# Altium footprint library gateway2.PcbLib: 12 footprints
Each footprint in its own frame and in the unit in brackets; x right, y up, seen from the top. Pads: shape width x height; smd on the part's side, far side on the other; paste and mask are expansions set on the pad; w line width, h text height; cw(c..) or ccw(c..) is an arc to the next point about the centre after c.
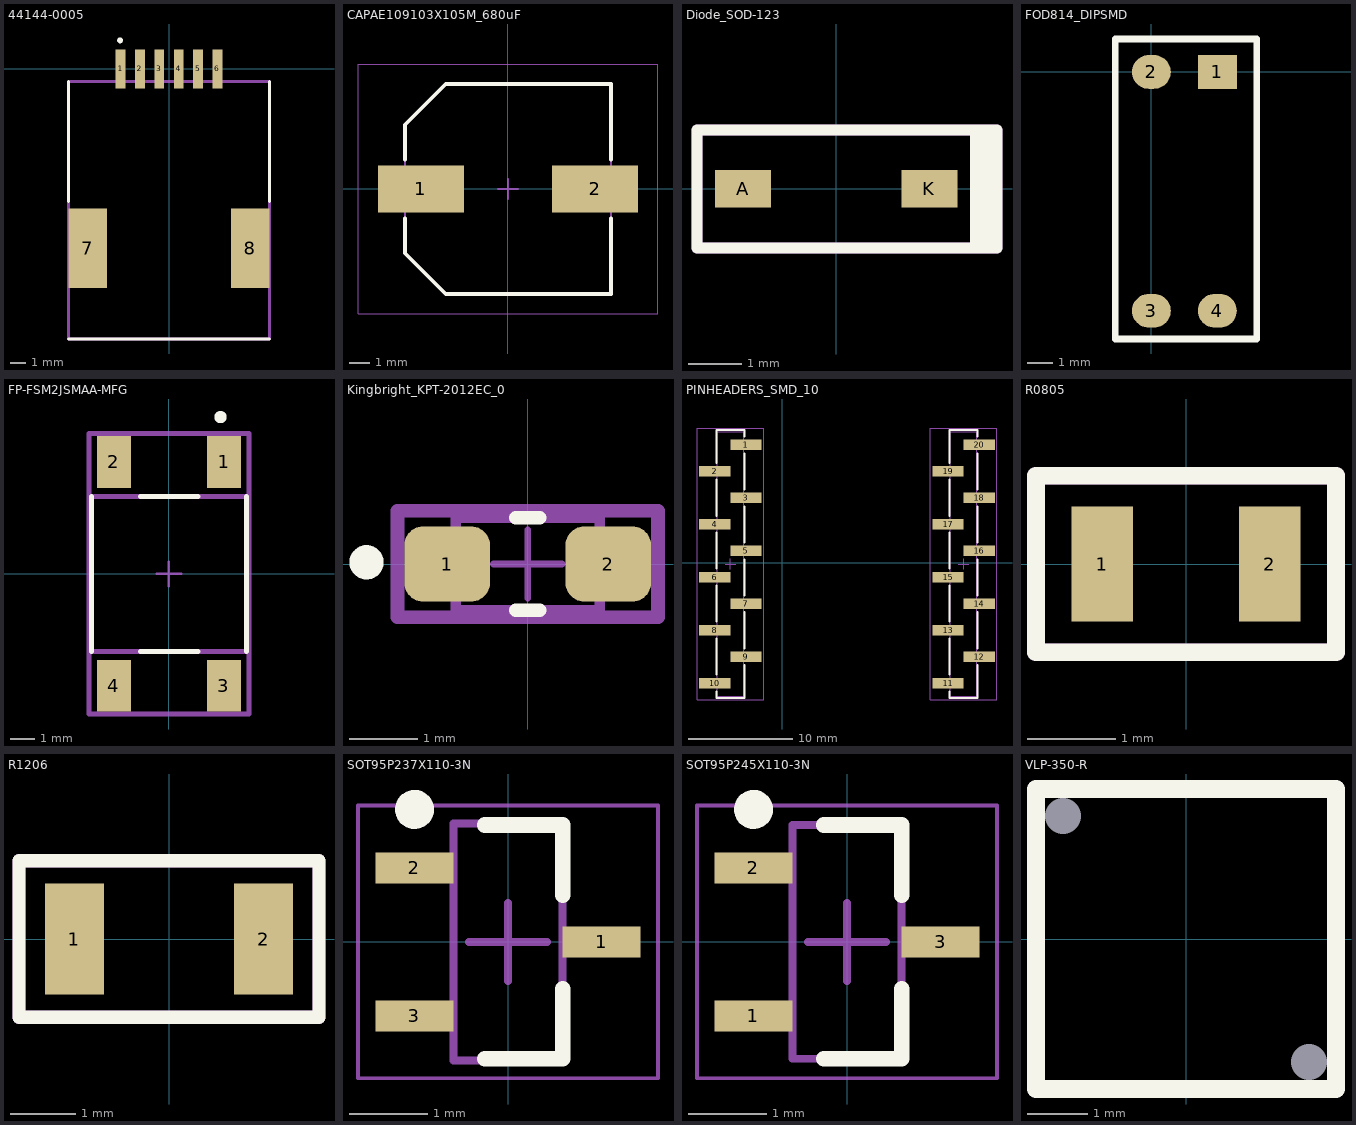
[diagram p0: the footprints below, top view; thin cyan lines are the x and y axes]

## 44144-0005 [mm]
pads (8):
  rect 0.64x2.54 smd: 1(-3.175,0) 2(-1.905,0) 3(-0.635,0) 4(0.635,0) 5(1.905,0) 6(3.175,0)
  rect 2.54x5.21 smd: 7(-5.33,-11.775) 8(5.33,-11.775)
Top Overlay:
  circle w0.2: c-3.21,1.874 r0.092
  lines w0.2: -6.605,-17.72 6.605,-17.72 ; -6.605,-8.704 -6.605,-0.83 ; 6.605,-8.704 6.605,-0.83
Mechanical 13:
  lines w0.2: -6.605,-17.72 6.605,-17.72 6.605,-0.83 -6.605,-0.83 -6.605,-17.72
3D body "44144-0005.stp": height 11.75, standoff 0.02, extent -6.604,-17.401 6.604,0.989

## CAPAE109103X105M_680uF [mm]
pads (2):
  rect 4.3x2.35 smd: 1(-4.35,0) 2(4.35,0)
Top Overlay:
  lines w0.2: -5.15,-1.475 -5.15,-3.213 -3.112,-5.25 5.15,-5.25 5.15,-1.475 ; -5.15,1.475 -5.15,3.212 -3.112,5.25 5.15,5.25 5.15,1.475
Mechanical 13:
  lines w0.1: -5.15,-3.213 -5.15,3.212 -3.112,5.25 5.15,5.25 5.15,-5.25 -3.112,-5.25 -5.15,-3.213
Mechanical 15:
  lines w0.05: -7.5,-6.25 7.5,-6.25 7.5,6.25 -7.5,6.25 -7.5,-6.25
  lines w0.1: -0.5,0 0.5,0 ; 0,-0.5 0,0.5
3D body "CAPAE109103X105M.step": height 10.5, standoff 0, extent -5.425,-5.25 5.425,5.25

## Diode_SOD-123 [mm]
pads (2):
  rect 1.05x0.7 smd: A(-1.74,0) K(1.74,0)
Top Overlay:
  rectangle: 2.5,-1.1 3,1
  lines w0.2: -2.6,-1.1 -2.6,1.1 3,1.1 3,-1.1 -2.6,-1.1
Mechanical 29:
  rectangle: 2.5,-1.1 3,1
  lines w0.2: -2.6,-1.1 -2.6,1.1 3,1.1 3,-1.1 -2.6,-1.1
  text "'.Designator'" at -2.2,-0.067 h0.7
3D body "User Library-SOD123-1.step": height 1.18, standoff 0, extent -1.95,-0.9 1.95,0.9

## FOD814_DIPSMD [mm]
pads (4):
  rect 1.5x1.3 smd: 1(2.54,0)
  oval 1.5x1.3 smd: 2(0,0) 3(0,-9.2) 4(2.54,-9.2)
Top Overlay:
  lines w0.254: -1.397,-10.287 4.064,-10.287 4.064,1.27 -1.397,1.27 -1.397,-10.287
3D body "User Library-PC817_Gullwing.STEP": height 3.86, standoff 0.01, extent -0.99,-9.6 3.59,0.4

## FP-FSM2JSMAA-MFG [mm]
pads (4):
  rect 1.38x2.1 smd paste+0 mask+0: 1(2.25,4.55) 2(-2.24,4.55) 3(2.24,-4.55) 4(-2.24,-4.55)
Top Overlay:
  circle w0.25: c2.1,6.375 r0.125
  lines w0.2: -3.15,-3.15 -3.15,3.15 ; -1.155,-3.15 1.195,-3.15 ; -1.155,3.15 1.195,3.15 ; 3.15,-3.15 3.15,3.15
Mechanical 5:
  lines w0.2: -3.25,-5.7 -3.25,5.7 3.25,5.7 3.25,-5.7 -3.25,-5.7
  text ".Designator" at 0,0.188 h1
Mechanical 13:
  lines w0.2: -3.15,-3.15 -3.15,3.15 3.15,3.15 3.15,-3.15 -3.15,-3.15
Mechanical 15:
  lines w0.2: -3.25,-5.7 -3.25,5.7 3.25,5.7 3.25,-5.7 -3.25,-5.7
Mechanical 16:
  lines w0.1: -0.5,0 0.5,0 ; 0,-0.5 0,0.5
3D body "Switch_TE_Connectivity_FSM2JSMAA_eec.STEP": height 0.25, standoff 0, extent -3.25,-5.7 3.25,5.7

## Kingbright_KPT-2012EC_0 [mm]
pads (2):
  rrect50% 1.25x1.1 smd paste+0 mask+0: 1(-1.175,0) 2(1.175,0)
Top Overlay:
  circle w0.25: c-2.35,0.025 r0.125
  lines w0.2: -0.175,-0.675 0.175,-0.675 ; -0.175,0.675 0.175,0.675
Mechanical 10:
  lines w0.2: -1.9,-0.775 1.9,-0.775 1.9,0.775 -1.9,0.775 -1.9,-0.775
  text ".Designator" at 0,0 h1
Mechanical 12:
  lines w0.15: -1.05,-0.675 1.05,-0.675 1.05,0.675 -1.05,0.675 -1.05,-0.675
Mechanical 15:
  lines w0.1: -0.5,0 0.5,0 ; 0,-0.5 0,0.5
  lines w0.2: -1.9,-0.775 1.9,-0.775 1.9,0.775 -1.9,0.775 -1.9,-0.775
3D body "Diode_Kingbright_KPT-2012EC_eec.STEP": height 0.25, standoff 0, extent -1.9,-0.775 1.9,0.775

## PINHEADERS_SMD_10 [mm]
pads (20):
  rect 3x1 smd: 1(-3.5,11.33) 2(-6.5,8.79) 3(-3.5,6.25) 4(-6.5,3.71) 5(-3.5,1.17) 6(-6.5,-1.37) 7(-3.5,-3.91) 8(-6.5,-6.45) 9(-3.5,-8.99) 10(-6.5,-11.53) 11(15.9,-11.53) 12(18.9,-8.99) 13(15.9,-6.45) 14(18.9,-3.91) 15(15.9,-1.37) 16(18.9,1.17) 17(15.9,3.71) 18(18.9,6.25) 19(15.9,8.79) 20(18.9,11.33)
Top Overlay:
  lines w0.2: -6.345,-12.35 -6.345,-12.95 -3.655,-12.95 -3.655,-9.79 ; -6.345,-10.71 -6.345,-7.25 ; -6.345,-5.63 -6.345,-2.17 ; -6.345,-0.55 -6.345,2.91 ; -6.345,4.53 -6.345,7.99 ; -6.345,9.59 -6.345,12.75 -3.655,12.75 -3.655,12.15 ; -3.655,-8.19 -3.655,-4.73 ; -3.655,-3.11 -3.655,0.35 ; -3.655,1.97 -3.655,5.43 ; -3.655,7.05 -3.655,10.51 ; 16.055,-12.35 16.055,-12.95 18.745,-12.95 18.745,-9.79 ; 16.055,-10.71 16.055,-7.25 ; 16.055,-5.63 16.055,-2.17 ; 16.055,-0.55 16.055,2.91 ; 16.055,4.53 16.055,7.99 ; 16.055,9.59 16.055,12.75 18.745,12.75 18.745,12.15 ; 18.745,-8.19 18.745,-4.73 ; 18.745,-3.11 18.745,0.35 ; 18.745,1.97 18.745,5.43 ; 18.745,7.05 18.745,10.51
Mechanical 13:
  lines w0.1: -6.27,-11.85 -7.5,-11.85 -7.5,-11.21 -6.27,-11.21 ; -6.27,-6.77 -7.5,-6.77 -7.5,-6.13 -6.27,-6.13 ; -6.27,-1.69 -7.5,-1.69 -7.5,-1.05 -6.27,-1.05 ; -6.27,3.39 -7.5,3.39 -7.5,4.03 -6.27,4.03 ; -6.27,8.47 -7.5,8.47 -7.5,9.11 -6.27,9.11 ; -3.73,-9.31 -2.5,-9.31 -2.5,-8.67 -3.73,-8.67 ; -3.73,-4.23 -2.5,-4.23 -2.5,-3.59 -3.73,-3.59 ; -3.73,0.85 -2.5,0.85 -2.5,1.49 -3.73,1.49 ; -3.73,5.93 -2.5,5.93 -2.5,6.57 -3.73,6.57 ; -3.73,11.01 -2.5,11.01 -2.5,11.65 -3.73,11.65 ; 16.13,-11.85 14.9,-11.85 14.9,-11.21 16.13,-11.21 ; 16.13,-6.77 14.9,-6.77 14.9,-6.13 16.13,-6.13 ; 16.13,-1.69 14.9,-1.69 14.9,-1.05 16.13,-1.05 ; 16.13,3.39 14.9,3.39 14.9,4.03 16.13,4.03 ; 16.13,8.47 14.9,8.47 14.9,9.11 16.13,9.11 ; 18.67,-9.31 19.9,-9.31 19.9,-8.67 18.67,-8.67 ; 18.67,-4.23 19.9,-4.23 19.9,-3.59 18.67,-3.59 ; 18.67,0.85 19.9,0.85 19.9,1.49 18.67,1.49 ; 18.67,5.93 19.9,5.93 19.9,6.57 18.67,6.57 ; 18.67,11.01 19.9,11.01 19.9,11.65 18.67,11.65 ; -6.27,-12.8 -6.27,12.6 -3.73,12.6 -3.73,-12.8 -6.27,-12.8 ; 16.13,-12.8 16.13,12.6 18.67,12.6 18.67,-12.8 16.13,-12.8
Mechanical 15:
  lines w0.05: -5.5,-0.1 -4.5,-0.1 ; -5,-0.6 -5,0.4 ; 16.9,-0.1 17.9,-0.1 ; 17.4,-0.6 17.4,0.4 ; -8.2,-13.15 -8.2,12.95 -1.8,12.95 -1.8,-13.15 -8.2,-13.15 ; 14.2,-13.15 14.2,12.95 20.6,12.95 20.6,-13.15 14.2,-13.15
3D body "ttgo_mini_board.stp": height 16.49, standoff 8.34, extent -9.385,-21.6 21.785,18.4
3D body "61001018321.stp": height 9.37, standoff 0.04, extent -7.5,-12.8 -2.5,12.6
3D body "61001018321.stp": height 9.37, standoff 0.04, extent 14.9,-12.8 19.9,12.6

## R0805 [mm]
pads (2):
  rect 0.7x1.3 smd: 1(-0.95,0) 2(0.95,0)
Top Overlay:
  lines w0.2: -1.7,-1 1.7,-1 1.7,1 -1.7,1 -1.7,-1
Mechanical 29:
  lines w0.2: -1.7,-1 1.7,-1 1.7,1 -1.7,1 -1.7,-1
  text "'.Designator'" at -1.2,-0.267 h0.7
3D body "User Library-CR2012-0805.step": height 0.61, standoff 0.01, extent -1,-0.625 1,0.625

## R1206 [mm]
pads (2):
  rect 0.9x1.7 smd: 1(-1.45,0) 2(1.45,0)
Top Overlay:
  lines w0.2: -2.3,-1.2 -2.3,1.2 2.3,1.2 2.3,-1.2 -2.3,-1.2
Mechanical 29:
  lines w0.2: -2.3,-1.2 -2.3,1.2 2.3,1.2 2.3,-1.2 -2.3,-1.2
  text "'.Designator'" at -1.7,-0.567 h0.7
3D body "User Library-CR3216-1206.step": height 0.61, standoff 0.01, extent -1.6,-0.8 1.6,0.8

## SOT95P237X110-3N [mm]
pads (3):
  rect 1x0.4 smd: 1(1.2,0) 2(-1.2,0.95) 3(-1.2,-0.95)
Top Overlay:
  circle w0.25: c-1.2,1.7 r0.125
  lines w0.2: -0.3,-1.5 0.7,-1.5 0.7,-0.6 ; -0.3,1.5 0.7,1.5 0.7,0.6
Mechanical 13:
  lines w0.1: -0.7,-1.52 -0.7,1.52 0.7,1.52 0.7,-1.52 -0.7,-1.52
Mechanical 15:
  lines w0.05: -1.925,-1.75 -1.925,1.75 1.925,1.75 1.925,-1.75 -1.925,-1.75
  lines w0.1: -0.5,0 0.5,0 ; 0,-0.5 0,0.5
3D body "SOT95P237X110-3N.step": height 1.1, standoff 0, extent -1.32,-1.52 1.32,1.52

## SOT95P245X110-3N [mm]
pads (3):
  rect 1x0.4 smd: 1(-1.2,-0.95) 2(-1.2,0.95) 3(1.2,0)
Top Overlay:
  circle w0.25: c-1.2,1.7 r0.125
  lines w0.2: -0.3,-1.5 0.7,-1.5 0.7,-0.6 ; -0.3,1.5 0.7,1.5 0.7,0.6
Mechanical 13:
  lines w0.1: -0.7,-1.5 -0.7,1.5 0.7,1.5 0.7,-1.5 -0.7,-1.5
Mechanical 15:
  lines w0.05: -1.925,-1.75 -1.925,1.75 1.925,1.75 1.925,-1.75 -1.925,-1.75
  lines w0.1: -0.5,0 0.5,0 ; 0,-0.5 0,0.5
3D body "SOT95P245X110-3N.step": height 1.1, standoff 0, extent -1.3,-1.5 1.3,1.5

## VLP-350-R [mm]
pads (2):
  round 0 hole 0.6 unplated: 4(-2.05,2.05) 5(2.05,-2.05)
Top Overlay:
  lines w0.3: -0.1,-2.5 2.5,-2.5 2.5,0 2.5,2.5 -0.1,2.5 ; 0.1,-2.5 -2.5,-2.5 -2.5,0 -2.5,2.5 0.1,2.5
3D body "BIVAR__INC_VLP-350-R.step": height 10.03, standoff -0.38, extent -2.349,-2.349 2.35,2.349